# EAGLE library part TUSB2046 (library TI)
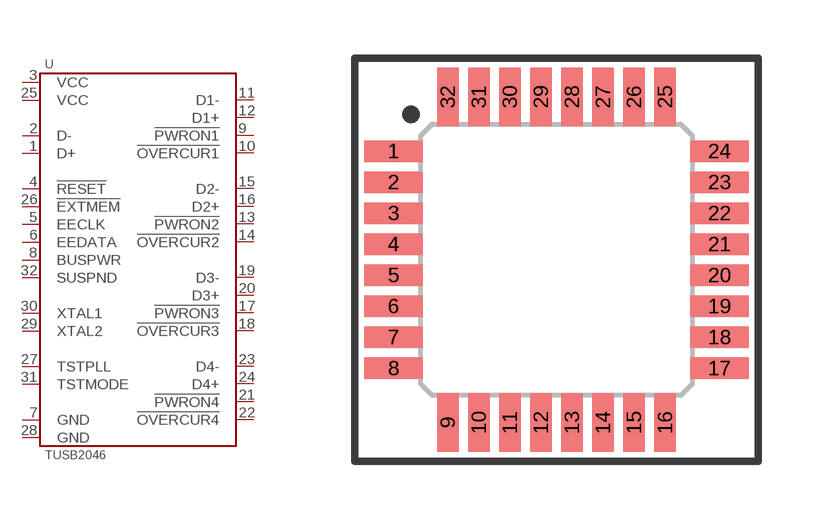
[diagram p14: symbol with the pads of LQFP-32; footprint LQFP-32]

Designator prefix U

## TUSB2046BVFR  [LQFP-32]
1  D+
2  D-
3  VCC
4  !RESET
5  EECLK
6  EEDATA
7  GND
8  BUSPWR
9  !PWRON1
10  !OVERCUR1
11  D1-
12  D1+
13  !PWRON2
14  !OVERCUR2
15  D2-
16  D2+
17  !PWRON3
18  !OVERCUR3
19  D3-
20  D3+
21  !PWRON4
22  !OVERCUR4
23  D4-
24  D4+
25  VCC
26  !EXTMEM
27  TSTPLL
28  GND
29  XTAL2
30  XTAL1
31  TSTMODE
32  SUSPND

## Footprint LQFP-32 (pad centres in mm)
smd 1.5 x 0.55: 1 -4.2,2.8; 2 -4.2,2; 3 -4.2,1.2; 4 -4.2,0.4; 5 -4.2,-0.4; 6 -4.2,-1.2; 7 -4.2,-2; 8 -4.2,-2.8; 17 4.2,-2.8; 18 4.2,-2; 19 4.2,-1.2; 20 4.2,-0.4; 21 4.2,0.4; 22 4.2,1.2; 23 4.2,2; 24 4.2,2.8
smd 0.55 x 1.5: 9 -2.8,-4.2; 10 -2,-4.2; 11 -1.2,-4.2; 12 -0.4,-4.2; 13 0.4,-4.2; 14 1.2,-4.2; 15 2,-4.2; 16 2.8,-4.2; 25 2.8,4.2; 26 2,4.2; 27 1.2,4.2; 28 0.4,4.2; 29 -0.4,4.2; 30 -1.2,4.2; 31 -2,4.2; 32 -2.8,4.2